# Altium schematic symbol library 850BOptionsBlock.Schlib: 1 symbol
Pins are listed as number, name and electrical type; pins without a type are passive.

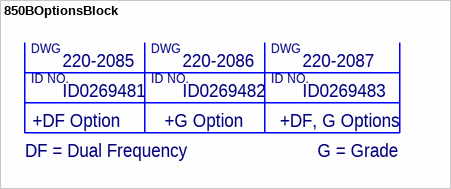
[diagram p0: symbol 850BOptionsBlock]

## 850BOptionsBlock
designator TB?
text: DWG; 220-2085; 220-2086; 220-2087; ID NO.; ID0269481; ID0269482; ID0269483; +DF Option; +G Option; +DF, G Options; DF = Dual Frequency; G = Grade